# Altium footprint library B2B-ZR.PcbLib: 1 footprints
Each footprint in its own frame and in the unit in brackets; x right, y up, seen from the top. Pads: shape width x height; smd on the part's side, far side on the other; paste and mask are expansions set on the pad; w line width, h text height; cw(c..) or ccw(c..) is an arc to the next point about the centre after c.
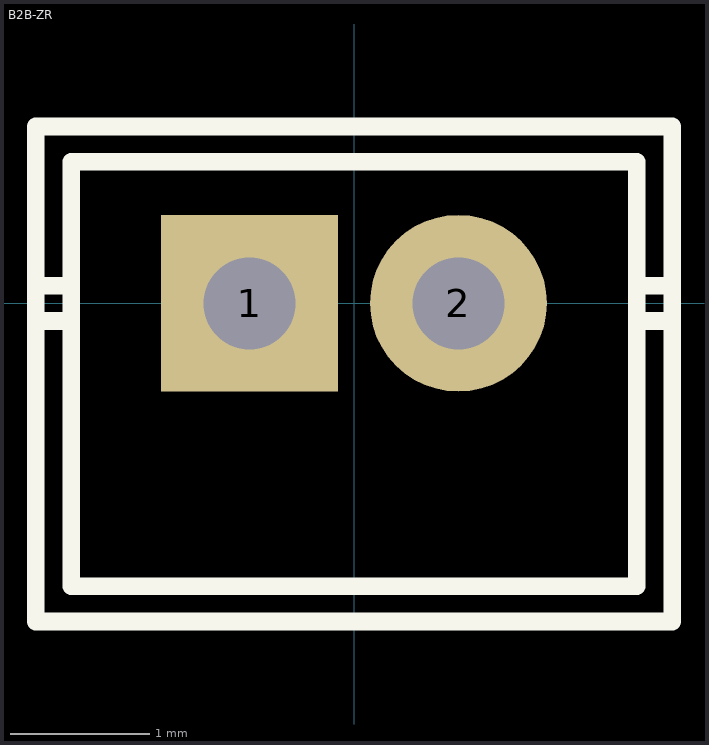
[diagram p0: the footprint, top view; thin cyan lines are the x and y axes]

## B2B-ZR [mil] "ZH Connector 1.5mm pitch, top entry"
height 177.17
pads (2):
  rect 50x50 hole 26: 1(-29.53,0)
  round 50 hole 26: 2(29.53,0)
Top Overlay:
  lines w5: -90,-5 -80,-5 -80,5 -90,5 ; 90,-5 80,-5 80,5 90,5 ; -90,-90 -90,50 90,50 90,-90 -90,-90 ; -80,-80 80,-80 80,40 -80,40 -80,-80
3D body: height 177.17, standoff 0, extent -89.98,5.02 89.98,49.98
3D body: height 59.06, standoff 0, extent -79.98,-79.98 79.98,39.98
3D body: height 177.17, standoff 0, extent -89.98,-89.98 89.98,-5.02